# Altium footprint library M8S04PFFPSF8001.PcbLib: 1 footprints
Each footprint in its own frame and in the unit in brackets; x right, y up, seen from the top. Pads: shape width x height; smd on the part's side, far side on the other; paste and mask are expansions set on the pad; w line width, h text height; cw(c..) or ccw(c..) is an arc to the next point about the centre after c.
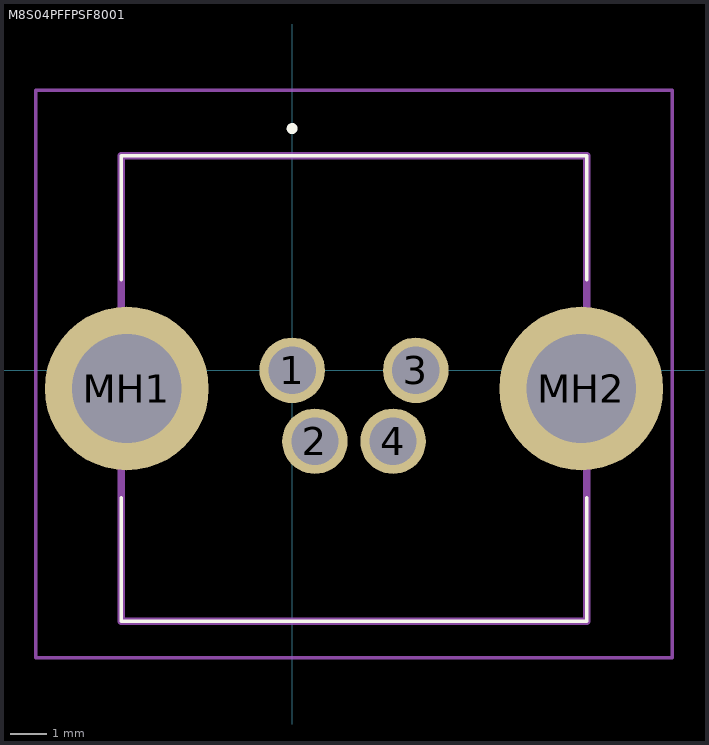
[diagram p0: the footprint, top view; thin cyan lines are the x and y axes]

## M8S04PFFPSF8001 [mm]
pads (6):
  round 1.8 hole 1.3: 1(0,0) 2(0.625,-1.95) 3(3.4,0) 4(2.775,-1.95)
  round 4.5 hole 3: MH1(-4.55,-0.5) MH2(7.95,-0.5)
Top Overlay:
  lines w0.1: -4.7,-3.5 -4.7,-6.9 8.1,-6.9 8.1,-3.5 ; -4.7,2.5 -4.7,5.9 8.1,5.9 8.1,2.5
  lines w0.2: 0,6.6 cw(c0,6.65) 0,6.7 ; 0,6.6 0,6.6 ; 0,6.6 ccw(c0,6.65) 0,6.7 ; 0,6.6 cw(c0,6.65) 0,6.7 ; 0,6.7 0,6.7 ; 0,6.7 0,6.7
Mechanical 15:
  lines w0.2: -4.7,-6.9 8.1,-6.9 8.1,5.9 -4.7,5.9 -4.7,-6.9
Mechanical 20:
  lines w0.1: -7.05,-7.9 10.45,-7.9 10.45,7.7 -7.05,7.7 -7.05,-7.9